# Altium schematic symbol library 2020-03-29_19-02-12.SchLib: 2 symbols
Pins are listed as number, name and electrical type; pins without a type are passive.

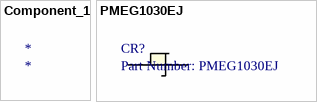
[diagram p0: symbols Component_1 to PMEG1030EJ]

## Component_1
designator *

## PMEG1030EJ
designator CR?, comment Part Number: PMEG1030EJ
No Description Available; Vendor: Nexperia; Type: DEV; Manufacturer_Part_Number: PMEG1030EJ; Copyright: Copyright (C) 2016 Accelerated Designs. All rights reserved; RefDes: RefDes; Value: Value
footprint SOD323F
pins: 1, 2